# Altium footprint library Taiyo Yuden.PcbLib: 33 footprints (part 2 of 3)
Each footprint in its own frame and in the unit in brackets; x right, y up, seen from the top. Pads: shape width x height; smd on the part's side, far side on the other; paste and mask are expansions set on the pad; w line width, h text height; cw(c..) or ccw(c..) is an arc to the next point about the centre after c.
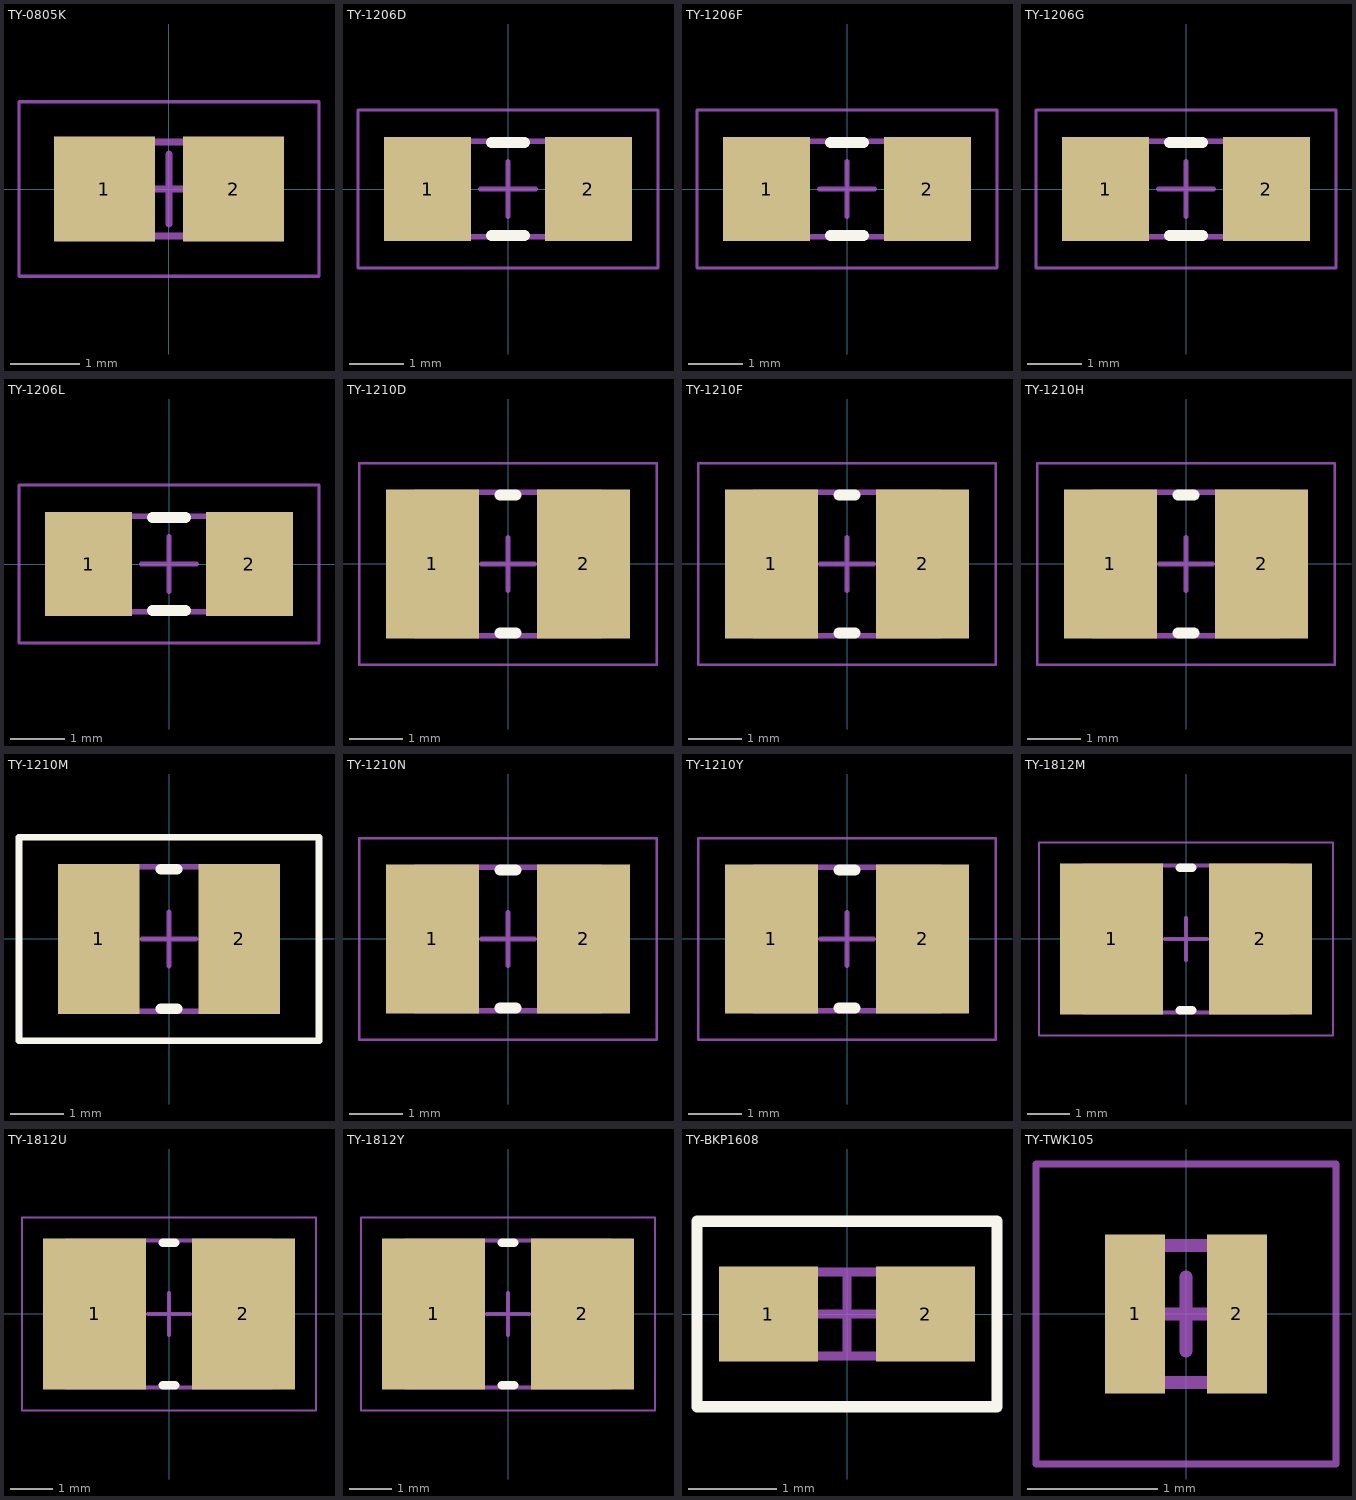
[diagram p1: the footprints below, top view; thin cyan lines are the x and y axes]

## TY-0805K [mm] "Chip Capacitor, 2-Leads, Body 2.00x1.25mm, IPC Low Density"
height 0.5
pads (2):
  rect 1.45x1.5 smd: 1(-0.925,0) 2(0.925,0)
Mechanical 13:
  lines w0.1: -1.05,-0.675 -1.05,0.675 1.05,0.675 1.05,-0.675 -1.05,-0.675
Mechanical 15:
  lines w0.05: -2.15,-1.25 -2.15,1.25 2.15,1.25 2.15,-1.25 -2.15,-1.25
  lines w0.1: -0.5,0 0.5,0 ; 0,-0.5 0,0.5
3D body: height 0.5, standoff 0, extent -0.55,-0.675 0.55,0.675
3D body: height 0.5, standoff 0, extent -1.05,-0.675 -0.55,0.675
3D body: height 0.5, standoff 0, extent 0.55,-0.675 1.05,0.675

## TY-1206D [mm] "Chip Capacitor, 2-Leads, Body 3.20x1.60mm, IPC Low Density"
height 0.95
pads (2):
  rect 1.6x1.9 smd: 1(-1.475,0) 2(1.475,0)
Top Overlay:
  lines w0.2: -0.3,-0.85 0.3,-0.85 ; -0.3,0.85 0.3,0.85
Mechanical 13:
  lines w0.1: -1.675,-0.875 1.675,-0.875 1.675,0.875 -1.675,0.875 -1.675,-0.875
Mechanical 15:
  lines w0.05: -2.75,-1.45 2.75,-1.45 2.75,1.45 -2.75,1.45 -2.75,-1.45
  lines w0.1: -0.5,0 0.5,0 ; 0,-0.5 0,0.5
3D body: height 0.95, standoff 0, extent 1.125,-0.875 1.675,0.875
3D body: height 0.95, standoff 0, extent -1.675,-0.875 -1.125,0.875
3D body: height 0.95, standoff 0, extent -1.125,-0.875 1.125,0.875

## TY-1206F [mm] "Chip Capacitor, 2-Leads, Body 3.20x1.60mm, IPC Low Density"
height 1.25
pads (2):
  rect 1.6x1.9 smd: 1(-1.475,0) 2(1.475,0)
Top Overlay:
  lines w0.2: -0.3,-0.85 0.3,-0.85 ; -0.3,0.85 0.3,0.85
Mechanical 13:
  lines w0.1: -1.675,-0.875 -1.675,0.875 1.675,0.875 1.675,-0.875 -1.675,-0.875
Mechanical 15:
  lines w0.05: -2.75,-1.45 -2.75,1.45 2.75,1.45 2.75,-1.45 -2.75,-1.45
  lines w0.1: -0.5,0 0.5,0 ; 0,-0.5 0,0.5
3D body: height 1.25, standoff 0, extent -1.125,-0.875 1.125,0.875
3D body: height 1.25, standoff 0, extent -1.675,-0.875 -1.125,0.875
3D body: height 1.25, standoff 0, extent 1.125,-0.875 1.675,0.875

## TY-1206G [mm] "Chip Capacitor, 2-Leads, Body 3.20x1.60mm, IPC Low Density"
height 1.35
pads (2):
  rect 1.6x1.9 smd: 1(-1.475,0) 2(1.475,0)
Top Overlay:
  lines w0.2: -0.3,-0.85 0.3,-0.85 ; -0.3,0.85 0.3,0.85
Mechanical 13:
  lines w0.1: -1.675,-0.875 1.675,-0.875 1.675,0.875 -1.675,0.875 -1.675,-0.875
Mechanical 15:
  lines w0.05: -2.75,-1.45 2.75,-1.45 2.75,1.45 -2.75,1.45 -2.75,-1.45
  lines w0.1: -0.5,0 0.5,0 ; 0,-0.5 0,0.5
3D body: height 1.35, standoff 0, extent 1.125,-0.875 1.675,0.875
3D body: height 1.35, standoff 0, extent -1.675,-0.875 -1.125,0.875
3D body: height 1.35, standoff 0, extent -1.125,-0.875 1.125,0.875

## TY-1206L [mm] "Chip Capacitor, 2-Leads, Body 3.20x1.60mm, IPC Low Density"
height 1.8
pads (2):
  rect 1.6x1.9 smd: 1(-1.475,0) 2(1.475,0)
Top Overlay:
  lines w0.2: -0.3,-0.85 0.3,-0.85 ; -0.3,0.85 0.3,0.85
Mechanical 13:
  lines w0.1: -1.675,-0.875 -1.675,0.875 1.675,0.875 1.675,-0.875 -1.675,-0.875
Mechanical 15:
  lines w0.05: -2.75,-1.45 -2.75,1.45 2.75,1.45 2.75,-1.45 -2.75,-1.45
  lines w0.1: -0.5,0 0.5,0 ; 0,-0.5 0,0.5
3D body: height 1.8, standoff 0, extent -1.125,-0.875 1.125,0.875
3D body: height 1.8, standoff 0, extent -1.675,-0.875 -1.125,0.875
3D body: height 1.8, standoff 0, extent 1.125,-0.875 1.675,0.875

## TY-1210D [mm] "Chip Capacitor, 2-Leads, Body 3.20x2.50mm, IPC Low Density"
height 0.95
pads (2):
  rect 1.75x2.8 smd: 1(-1.425,0) 2(1.425,0)
Top Overlay:
  lines w0.2: -0.15,-1.3 0.15,-1.3 ; -0.15,1.3 0.15,1.3
Mechanical 13:
  lines w0.1: -1.75,-1.35 1.75,-1.35 1.75,1.35 -1.75,1.35 -1.75,-1.35
Mechanical 15:
  lines w0.05: -2.8,-1.9 2.8,-1.9 2.8,1.9 -2.8,1.9 -2.8,-1.9
  lines w0.1: -0.5,0 0.5,0 ; 0,-0.5 0,0.5
3D body: height 0.95, standoff 0, extent 1.15,-1.35 1.75,1.35
3D body: height 0.95, standoff 0, extent -1.75,-1.35 -1.15,1.35
3D body: height 0.95, standoff 0, extent -1.15,-1.35 1.15,1.35

## TY-1210F [mm] "Chip Capacitor, 2-Leads, Body 3.20x2.50mm, IPC Low Density"
height 1.25
pads (2):
  rect 1.75x2.8 smd: 1(-1.425,0) 2(1.425,0)
Top Overlay:
  lines w0.2: -0.15,-1.3 0.15,-1.3 ; -0.15,1.3 0.15,1.3
Mechanical 13:
  lines w0.1: -1.75,-1.35 1.75,-1.35 1.75,1.35 -1.75,1.35 -1.75,-1.35
Mechanical 15:
  lines w0.05: -2.8,-1.9 2.8,-1.9 2.8,1.9 -2.8,1.9 -2.8,-1.9
  lines w0.1: -0.5,0 0.5,0 ; 0,-0.5 0,0.5
3D body: height 1.25, standoff 0, extent 1.15,-1.35 1.75,1.35
3D body: height 1.25, standoff 0, extent -1.75,-1.35 -1.15,1.35
3D body: height 1.25, standoff 0, extent -1.15,-1.35 1.15,1.35

## TY-1210H [mm] "Chip Capacitor, 2-Leads, Body 3.20x2.50mm, IPC Low Density"
height 1.6
pads (2):
  rect 1.75x2.8 smd: 1(-1.425,0) 2(1.425,0)
Top Overlay:
  lines w0.2: -0.15,-1.3 0.15,-1.3 ; -0.15,1.3 0.15,1.3
Mechanical 13:
  lines w0.1: -1.75,-1.35 1.75,-1.35 1.75,1.35 -1.75,1.35 -1.75,-1.35
Mechanical 15:
  lines w0.05: -2.8,-1.9 2.8,-1.9 2.8,1.9 -2.8,1.9 -2.8,-1.9
  lines w0.1: -0.5,0 0.5,0 ; 0,-0.5 0,0.5
3D body: height 1.6, standoff 0, extent 1.15,-1.35 1.75,1.35
3D body: height 1.6, standoff 0, extent -1.75,-1.35 -1.15,1.35
3D body: height 1.6, standoff 0, extent -1.15,-1.35 1.15,1.35

## TY-1210M [mm] "Chip Capacitor, 2-Leads, Body 3.20x2.50mm, IPC Low Density"
height 2.7
pads (2):
  rect 1.524x2.8 smd: 1(-1.312,0) 2(1.312,0)
Top Overlay:
  lines w0.127: -2.8,-1.9 2.8,-1.9 2.8,1.9 -2.8,1.9 -2.8,-1.9
  lines w0.2: -0.15,-1.3 0.15,-1.3 ; -0.15,1.3 0.15,1.3
Top Assembly:
  lines w0.1: -1.75,-1.35 1.75,-1.35 1.75,1.35 -1.75,1.35 -1.75,-1.35
Top Courtyard:
  lines w0.05: -2.8,-1.9 -2.8,1.9 2.8,1.9 2.8,-1.9 -2.8,-1.9
  lines w0.1: -0.5,0 0.5,0 ; 0,-0.5 0,0.5
3D body: height 2.7, standoff 0, extent 1.15,-1.35 1.75,1.35
3D body: height 2.7, standoff 0, extent -1.75,-1.35 -1.15,1.35
3D body: height 2.7, standoff 0, extent -1.15,-1.35 1.15,1.35

## TY-1210N [mm] "Chip Capacitor, 2-Leads, Body 3.20x2.50mm, IPC Low Density"
height 2.1
pads (2):
  rect 1.75x2.8 smd: 1(-1.425,0) 2(1.425,0)
Top Overlay:
  lines w0.2: -0.15,-1.3 0.15,-1.3 ; -0.15,1.3 0.15,1.3
Mechanical 13:
  lines w0.1: -1.75,-1.35 1.75,-1.35 1.75,1.35 -1.75,1.35 -1.75,-1.35
Mechanical 15:
  lines w0.05: -2.8,-1.9 2.8,-1.9 2.8,1.9 -2.8,1.9 -2.8,-1.9
  lines w0.1: -0.5,0 0.5,0 ; 0,-0.5 0,0.5
3D body: height 2.1, standoff 0, extent 1.15,-1.35 1.75,1.35
3D body: height 2.1, standoff 0, extent -1.75,-1.35 -1.15,1.35
3D body: height 2.1, standoff 0, extent -1.15,-1.35 1.15,1.35

## TY-1210Y [mm] "Chip Capacitor, 2-Leads, Body 3.20x2.50mm, IPC Low Density"
height 2
pads (2):
  rect 1.75x2.8 smd: 1(-1.425,0) 2(1.425,0)
Top Overlay:
  lines w0.2: -0.15,-1.3 0.15,-1.3 ; -0.15,1.3 0.15,1.3
Mechanical 13:
  lines w0.1: -1.75,-1.35 -1.75,1.35 1.75,1.35 1.75,-1.35 -1.75,-1.35
Mechanical 15:
  lines w0.05: -2.8,-1.9 -2.8,1.9 2.8,1.9 2.8,-1.9 -2.8,-1.9
  lines w0.1: -0.5,0 0.5,0 ; 0,-0.5 0,0.5
3D body: height 2, standoff 0, extent -1.15,-1.35 1.15,1.35
3D body: height 2, standoff 0, extent -1.75,-1.35 -1.15,1.35
3D body: height 2, standoff 0, extent 1.15,-1.35 1.75,1.35

## TY-1812M [mm] "Chip Capacitor, 2-Leads, Body 4.50x3.20mm, IPC Low Density"
height 2.7
pads (2):
  rect 2.45x3.6 smd: 1(-1.775,0) 2(1.775,0)
Top Overlay:
  lines w0.2: -0.15,-1.7 0.15,-1.7 ; -0.15,1.7 0.15,1.7
Mechanical 13:
  lines w0.1: -2.45,-1.75 -2.45,1.75 2.45,1.75 2.45,-1.75 -2.45,-1.75
Mechanical 15:
  lines w0.05: -3.5,-2.3 -3.5,2.3 3.5,2.3 3.5,-2.3 -3.5,-2.3
  lines w0.1: -0.5,0 0.5,0 ; 0,-0.5 0,0.5
3D body: height 2.7, standoff 0, extent -1.55,-1.75 1.55,1.75
3D body: height 2.7, standoff 0, extent -2.45,-1.75 -1.55,1.75
3D body: height 2.7, standoff 0, extent 1.55,-1.75 2.45,1.75

## TY-1812U [mm] "Chip Capacitor, 2-Leads, Body 4.50x3.20mm, IPC Low Density"
height 3.5
pads (2):
  rect 2.45x3.6 smd: 1(-1.775,0) 2(1.775,0)
Top Overlay:
  lines w0.2: -0.15,-1.7 0.15,-1.7 ; -0.15,1.7 0.15,1.7
Mechanical 13:
  lines w0.1: -2.45,-1.75 2.45,-1.75 2.45,1.75 -2.45,1.75 -2.45,-1.75
Mechanical 15:
  lines w0.05: -3.5,-2.3 3.5,-2.3 3.5,2.3 -3.5,2.3 -3.5,-2.3
  lines w0.1: -0.5,0 0.5,0 ; 0,-0.5 0,0.5
3D body: height 3.5, standoff 0, extent 1.55,-1.75 2.45,1.75
3D body: height 3.5, standoff 0, extent -2.45,-1.75 -1.55,1.75
3D body: height 3.5, standoff 0, extent -1.55,-1.75 1.55,1.75

## TY-1812Y [mm] "Chip Capacitor, 2-Leads, Body 4.50x3.20mm, IPC Low Density"
height 2
pads (2):
  rect 2.45x3.6 smd: 1(-1.775,0) 2(1.775,0)
Top Overlay:
  lines w0.2: -0.15,-1.7 0.15,-1.7 ; -0.15,1.7 0.15,1.7
Mechanical 13:
  lines w0.1: -2.45,-1.75 -2.45,1.75 2.45,1.75 2.45,-1.75 -2.45,-1.75
Mechanical 15:
  lines w0.05: -3.5,-2.3 -3.5,2.3 3.5,2.3 3.5,-2.3 -3.5,-2.3
  lines w0.1: -0.5,0 0.5,0 ; 0,-0.5 0,0.5
3D body: height 2, standoff 0, extent -1.55,-1.75 1.55,1.75
3D body: height 2, standoff 0, extent -2.45,-1.75 -1.55,1.75
3D body: height 2, standoff 0, extent 1.55,-1.75 2.45,1.75

## TY-BKP1608 [mm] "Chip Inductor, 2-Leads, Body 1.60x0.80mm, IPC Low Density"
height 0.95
pads (2):
  rect 1.12x1.08 smd: 1(-0.89,0) 2(0.89,0)
Top Overlay:
  lines w0.127: -1.7,-1.05 -1.7,1.05 1.7,1.05 1.7,-1.05 -1.7,-1.05
Mechanical 13:
  lines w0.1: -0.875,-0.475 0.875,-0.475 0.875,0.475 -0.875,0.475 -0.875,-0.475
Mechanical 15:
  lines w0.05: -1.7,-1.05 1.7,-1.05 1.7,1.05 -1.7,1.05 -1.7,-1.05
  lines w0.1: -0.475,0 0.475,0 ; 0,-0.475 0,0.475
3D body "TY-BKP1608.step": height 0.95, standoff 0, extent -0.875,-0.475 0.875,0.475

## TY-TWK105 [mm] "Chip Capacitor, 2-Leads, Body 0.52x1.00mm, IPC Low Density"
height 0.35
pads (2):
  rect 0.46x1.22 smd: 1(-0.39,0) 2(0.39,0)
Top Assembly:
  lines w0.1: -0.285,-0.525 -0.285,0.525 0.285,0.525 0.285,-0.525 -0.285,-0.525
Top Courtyard:
  lines w0.05: -1.15,-1.15 -1.15,1.15 1.15,1.15 1.15,-1.15 -1.15,-1.15
  lines w0.1: -0.285,0 0.285,0 ; 0,-0.285 0,0.285
3D body "TY-TWK107.step": height 0.35, standoff 0, extent -0.285,-0.525 0.285,0.525